# EAGLE library part AST027-10 (library con-ria-ast027-750)
RIA Springcon AST027-10 Grid 7,5mm, Drill 1,1mm Source: http://www.riaconnect.com/_assets/catalog/2008_TB_40.pdf
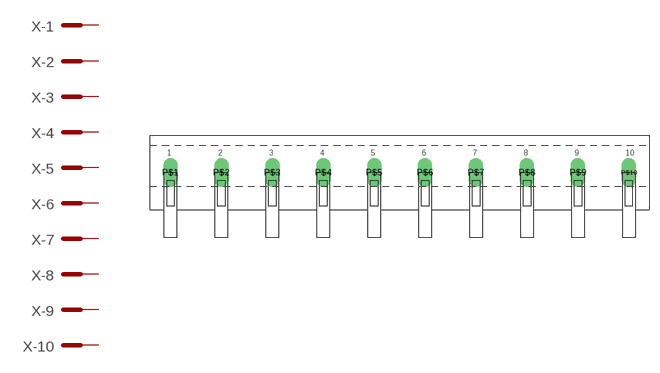
[diagram p2: symbol with the pads of P_AST027-10; footprint P_AST027-10]

Designator prefix X; gates -1=AST_PAD -2=AST_PAD -3=AST_PAD -4=AST_PAD -5=AST_PAD -6=AST_PAD -7=AST_PAD -8=AST_PAD -9=AST_PAD -10=AST_PAD

## AST027-10  [P_AST027-10]
P$1  -1:SK  pas
P$2  -2:SK  pas
P$3  -3:SK  pas
P$4  -4:SK  pas
P$5  -5:SK  pas
P$6  -6:SK  pas
P$7  -7:SK  pas
P$8  -8:SK  pas
P$9  -9:SK  pas
P$10  -10:SK  pas

## Footprint P_AST027-10 (pad centres in mm)
drill 1.4 long: P$1 -30.48,0; P$2 -22.98,0; P$3 -15.48,0; P$4 -7.98,0; P$5 -0.48,0; P$6 7.02,0; P$7 14.52,0; P$8 22.02,0; P$9 29.52,0; P$10 37.02,0